# Altium integrated library A_Connector.IntLib: 15 symbols
Pins are listed as number, name and electrical type; pins without a type are passive.

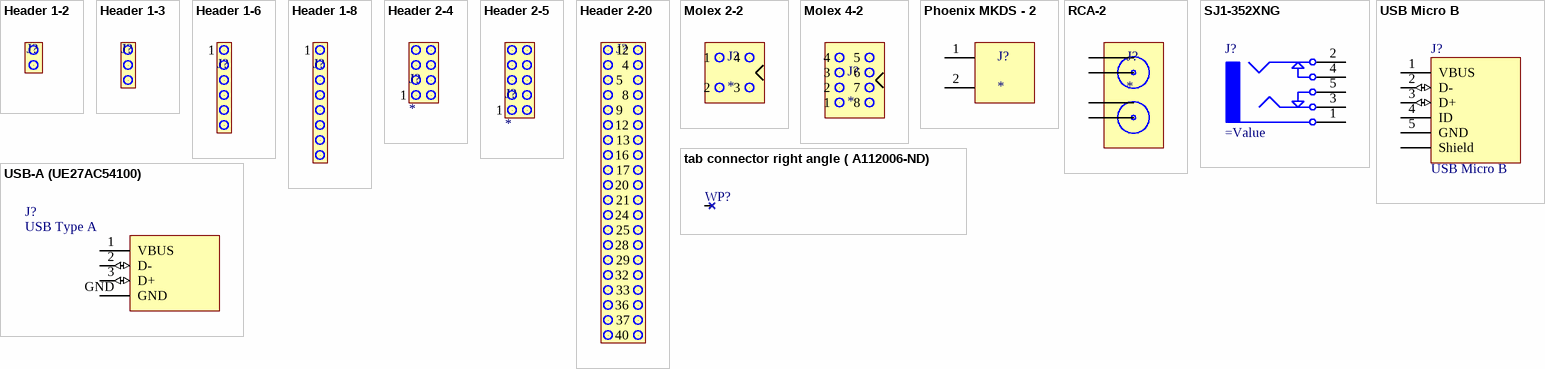
[diagram p0: symbols Header 1-2 to USB-A (UE27AC54100)]

## Header 1-2
designator J?
footprint HDR1X2 VERT (Connector; Header; 2 Position)
footprint RCA-JCK-1 (RCA Phono Jack, Right Angle)
pins: 1, 2

## Header 1-3
designator J?
Header, 3 Pin, 1.27mm Pitch, Vertical
footprint HDR1X3 VERT (Connector; Header; 3 Position; Vertical Mount)
footprint HDR1X3 VERT - S (Connector; Header; 3 Position; Vertical Mount)
pins: 1, 2, 3

## Header 1-6
designator J?
footprint HDR1X6 VERT - L (Connector; Header; 6 Position; Vertical Mount)
footprint HDR1X6 VERT - S (Connector; Header; 6 Position; Vertical Mount)
footprint HDR1X6 VERT - SL (Connector; Header; 6 Position; Vertical Mount)
pins: 1, 2, 3, 4, 5, 6

## Header 1-8
designator J?
footprint HDR1X8 VERT (Connector; Header; 6 Position; Vertical Mount)
pins: 1, 2, 3, 4, 5, 6, 7, 8

## Header 2-4
designator J?
footprint 20021321-00008
footprint 20021122-00008
pins: 1, 2, 3, 4, 5, 6, 7, 8

## Header 2-5
designator J?
footprint 20021321-00010
pins: 1, 2, 3, 4, 5, 6, 7, 8, 9, 10

## Header 2-20
designator J?
footprint HDR2x20 VERT
pins: 1, 2, 3, 4, 5, 6, 7, 8, 9, 10, 11, 12, 13, 14, 15, 16, 17, 18, 19, 20, 21, 22, 23, 24, 25, 26, 27, 28, 29, 30, 31, 32, 33, 34, 35, 36, 37, 38, 39, 40

## Molex 2-2
designator J?
Value: *
footprint MolexMiniJr-2x2
pins: 1, 2, 3, 4

## Molex 4-2
designator J?
Value: *
footprint MOLEXMINIJR-4x2
pins: 1, 2, 3, 4, 5, 6, 7, 8

## Phoenix MKDS - 2
designator J?
footprint Phoenix MKDS - 2
pins: 1 Vss, 2 Vss

## RCA-2
designator J?
footprint PJRAS2X1S01AUX
footprint AV2-8.4-10
pins: 1, 2, 3 1, 4 2

## SJ1-352XNG
designator J?
3.5mm TRS Phone Jack With Switches
footprint 3.5 audio barrel jack (SJ1-352XNG)
pins: 1, 2, 3, 4, 5

## tab connector right angle ( A112006-ND)
designator WP?, comment Wire Pad  (value not drawn)
Wire Pad, 1 Pin, Through Hole, Vertical
footprint TAB connector right angle
pins: 0

## USB Micro B
designator J?
Female Micro USB Type B
footprint USB-MICRO-B (10118194-0001LF) (Round Holes; USB - micro B USB 2.0 Receptacle Connector 5 Position Surface Mount, Right Angle, Horizontal)
footprint USB-MICRO-B (MCR-AB-S-RA-TSMT) (Round Holes; USB - micro B USB 2.0 Receptacle Connector 5 Position Surface Mount, Right Angle, Horizontal)
footprint USB-MICRO-B (a01sbxxxxxxx-470)
footprint USB-MICRO-B (A01SB141B1-298) (Round Holes; USB - micro B USB 2.0 Receptacle Connector 5 Position Surface Mount, Right Angle, Horizontal)
pins: 1 VBUS (power), 2 D- (io), 3 D+ (io), 4 ID, 5 GND (power), Shield

## USB-A (UE27AC54100)
designator J?, comment USB Type A
Female USB Type A Connector
footprint USB-A-ThroughHole
pins: 1 VBUS (power), 2 D- (io), 3 D+ (io), GND (power)